# Altium footprint library supercap.PCBLIB: 487 footprints (part 14 of 31)
Each footprint in its own frame and in the unit in brackets; x right, y up, seen from the top. Pads: shape width x height; smd on the part's side, far side on the other; paste and mask are expansions set on the pad; w line width, h text height; cw(c..) or ccw(c..) is an arc to the next point about the centre after c.
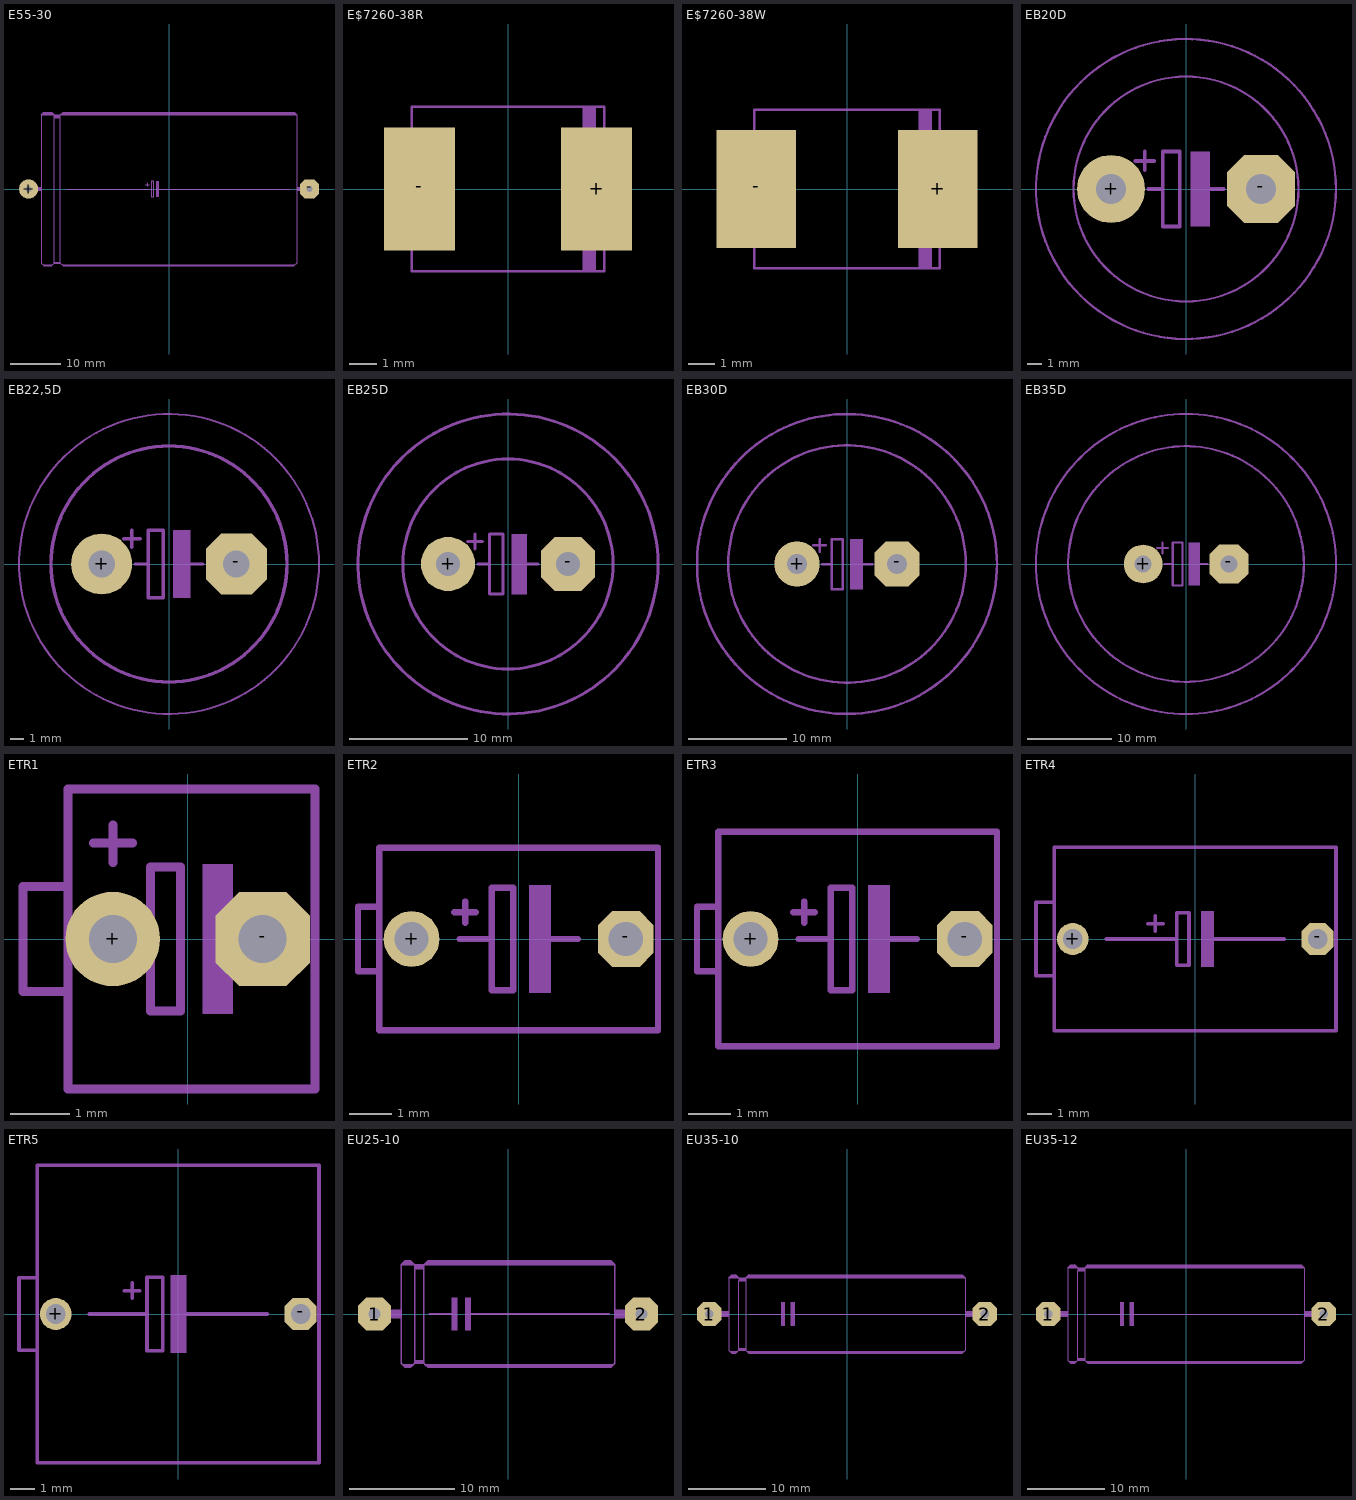
[diagram p13: the footprints below, top view; thin cyan lines are the x and y axes]

## E55-30 [mil]
pads (2):
  round 150 hole 47: +(-1100,0)
  oct 150x150 / inner round 138.58 / far side oct 150x150 hole 47: -(1100,0)
tDocu:
  lines w30: -1100,0 -1025,0 ; 1025,0 1100,0
tPlace:
  region: -100,-60 -100,60 -80,60 -80,-60
  region: 1000,-15 1000,15 1020,15 1020,-15
  region: -1020,-15 -1020,15 -1000,15 -1000,-15
  lines w6: -920,-598 -980,-598 -980,-600 ; -800,0 -140,0 ; -185,35 -155,35 ; -170,20 -170,50 ; -85,0 950,0 ; 980,-598 -830,-598 -830,-600 ; -1000,580 -980,600 -920,600 -900,580 ; -1000,580 -1000,-580 -985,-595 ; -1000,580 -900,580 ; -985,-595 -915,-595 ; -985,-595 -980,-600 ; -980,-600 -920,-600 -915,-595 ; -915,-595 -900,-580 ; -900,-580 -850,-580 ; -900,-580 -900,-578 ; -900,-578 -850,-578 ; -900,-578 -900,-575 ; -900,-575 -850,-575 ; -900,-575 -900,560 ; -900,560 -900,580 ; -900,560 -850,560 ; -900,580 -850,580 ; -850,-580 -850,-578 ; -850,-580 -835,-595 ; -850,-578 -850,-575 ; -850,-575 -850,560 ; -850,560 -850,580 ; -850,580 -830,600 980,600 1000,580 ; -850,580 1000,580 ; -835,-595 -830,-600 ; -835,-595 985,-595 ; -830,-600 980,-600 985,-595 ; -140,0 -140,60 -120,60 -120,-60 -140,-60 -140,0 ; 985,-595 1000,-580 1000,580
  lines w12: -990,585 -910,585 ; -980,595 -920,595 ; -895,565 -855,565 ; -895,575 -855,575 ; -840,585 990,585 ; -830,595 980,595

## E$7260-38R [mil]
pads (2):
  rect 100.39x173.23 smd: +(125,0) -(-125,0)
tDocu:
  region: -143.7,-80.71 -143.7,80.71 -137.8,80.71 -137.8,-80.71
  region: 137.8,-80.71 137.8,80.71 143.7,80.71 143.7,-80.71
  region: 105.32,-117.13 105.32,117.13 124.02,117.13 124.02,-117.13
  lines w4: -135.83,-116.14 135.83,-116.14 135.83,116.14 -135.83,116.14 -135.83,-116.14

## E$7260-38W [mil]
pads (2):
  rect 116.14x173.23 smd: +(132.87,0) -(-132.87,0)
tDocu:
  region: -143.7,-80.71 -143.7,80.71 -137.8,80.71 -137.8,-80.71
  region: 137.8,-80.71 137.8,80.71 143.7,80.71 143.7,-80.71
  region: 105.32,-117.13 105.32,117.13 124.02,117.13 124.02,-117.13
  lines w4: -135.83,-116.14 135.83,-116.14 135.83,116.14 -135.83,116.14 -135.83,-116.14

## EB20D [mil]
pads (2):
  round 181 hole 79: +(-200,0)
  oct 181x181 / inner round 167.22 / far side oct 181x181 hole 79: -(200,0)
tPlace:
  circle w6: c0,0 r400
  circle w6: c0,0 r300
  region: 13,-100 13,100 63,100 63,-100
  lines w10: -135,75 -85,75 ; -110,50 -110,100 ; -100,0 -62,0 ; 25,0 100,0 ; -62,0 -62,100 -17,100 -17,-100 -62,-100 -62,0

## EB22,5D [mil]
pads (2):
  round 181 hole 79: +(-200,0)
  oct 181x181 / inner round 167.22 / far side oct 181x181 hole 79: -(200,0)
tPlace:
  circle w10: c0,0 r350
  circle w6: c0,0 r445
  region: 13,-100 13,100 63,100 63,-100
  lines w10: -135,75 -85,75 ; -110,50 -110,100 ; -100,0 -62,0 ; 25,0 100,0 ; -62,0 -62,100 -17,100 -17,-100 -62,-100 -62,0

## EB25D [mil]
pads (2):
  round 181 hole 79: +(-200,0)
  oct 181x181 / inner round 167.22 / far side oct 181x181 hole 79: -(200,0)
tPlace:
  circle w10: c0,0 r500
  circle w10: c0,0 r350
  region: 13,-100 13,100 63,100 63,-100
  lines w10: -135,75 -85,75 ; -110,50 -110,100 ; -100,0 -62,0 ; 25,0 100,0 ; -62,0 -62,100 -17,100 -17,-100 -62,-100 -62,0

## EB30D [mil]
pads (2):
  round 181 hole 79: +(-200,0)
  oct 181x181 / inner round 167.22 / far side oct 181x181 hole 79: -(200,0)
tPlace:
  circle w10: c0,0 r600
  circle w10: c0,0 r475
  region: 13,-100 13,100 63,100 63,-100
  lines w10: -135,75 -85,75 ; -110,50 -110,100 ; -100,0 -62,0 ; 25,0 100,0 ; -62,0 -62,100 -17,100 -17,-100 -62,-100 -62,0

## EB35D [mil]
pads (2):
  round 181 hole 79: +(-200,0)
  oct 181x181 / inner round 167.22 / far side oct 181x181 hole 79: -(200,0)
tPlace:
  circle w10: c0,0 r700
  circle w10: c0,0 r550
  region: 13,-100 13,100 63,100 63,-100
  lines w10: -135,75 -85,75 ; -110,50 -110,100 ; -100,0 -62,0 ; 55,0 100,0 ; -62,0 -62,100 -17,100 -17,-100 -62,-100 -62,0

## ETR1 [mil]
pads (2):
  round 63 hole 32: +(-50,0)
  oct 63x63 / inner round 58.2 / far side oct 63x63 hole 32: -(50,0)
tDocu:
  region: 10,-50 10,50 30,50 30,-50
  lines w6: -80,-35 -80,35 ; -65,0 -25,0 ; 25,0 65,0 ; 85,-25 85,25 ; -25,0 -25,-48 -5,-48 -5,48 -25,48 -25,0
tPlace:
  lines w6: -63,64 -37,64 ; -50,51 -50,76 ; 85,-25 85,-100 -80,-100 -80,-35 -110,-35 -110,35 -80,35 -80,100 85,100 85,25

## ETR2 [mil]
pads (2):
  round 52 hole 32: +(-100,0)
  oct 52x52 / inner round 48.04 / far side oct 52x52 hole 32: -(100,0)
tDocu:
  lines w6: -130,-30 -130,30 ; 130,-30 130,30
tPlace:
  region: 10,-50 10,50 30,50 30,-50
  lines w6: -60,25 -40,25 ; -55,0 -25,0 ; -50,15 -50,35 ; 25,0 55,0 ; 130,-30 130,-85 -130,-85 -130,-30 -150,-30 -150,30 -130,30 -130,85 130,85 130,30 ; -25,0 -25,-48 -5,-48 -5,48 -25,48 -25,0

## ETR3 [mil]
pads (2):
  round 52 hole 32: +(-100,0)
  oct 52x52 / inner round 48.04 / far side oct 52x52 hole 32: -(100,0)
tDocu:
  lines w6: -130,-30 -130,30 ; 130,-30 130,30
tPlace:
  region: 10,-50 10,50 30,50 30,-50
  lines w6: -60,25 -40,25 ; -55,0 -25,0 ; -50,15 -50,35 ; 25,0 55,0 ; 130,-30 130,-100 -130,-100 -130,-30 -150,-30 -150,30 -130,30 -130,100 130,100 130,30 ; -25,0 -25,-48 -5,-48 -5,48 -25,48 -25,0

## ETR4 [mil]
pads (2):
  round 52 hole 32: +(-200,0)
  oct 52x52 / inner round 48.04 / far side oct 52x52 hole 32: -(200,0)
tDocu:
  lines w6: -230,-60 -230,60 ; 230,-30 230,30
tPlace:
  region: 10,-45 10,45 30,45 30,-45
  lines w6: -145,0 -30,0 ; -77,25 -52,25 ; -65,13 -65,38 ; 20,0 145,0 ; 230,-30 230,-150 -230,-150 -230,-60 -260,-60 -260,60 -230,60 -230,150 230,150 230,30 ; -30,0 -30,43 -10,43 -10,-43 -30,-43 -30,0

## ETR5 [mil]
pads (2):
  round 52 hole 32: +(-200,0)
  oct 52x52 / inner round 48.04 / far side oct 52x52 hole 32: -(200,0)
tDocu:
  lines w6: -230,-59 -230,59 ; 230,-35 230,35
tPlace:
  region: -12,-63 -12,63 13,63 13,-63
  lines w6: -145,0 -51,0 ; -88,38 -63,38 ; -75,26 -75,51 ; 0,0 145,0 ; 230,-35 230,-243 -230,-243 -230,-59 -260,-59 -260,59 -230,59 -230,243 230,243 230,35 ; -51,0 -51,60 -25,60 -25,-60 -51,-60 -51,0

## EU25-10 [mil]
pads (2):
  oct 124x124 / inner round 114.56 / far side oct 124x124 hole 44: 1(-500,0) 2(500,0)
tDocu:
  lines w30: -500,0 -435,0 ; 435,0 500,0
tPlace:
  region: -160,-60 -160,60 -140,60 -140,-60
  region: -435,-15 -435,15 -400,15 -400,-15
  region: 400,-15 400,15 435,15 435,-15
  region: -210,-60 -210,60 -190,60 -190,-60
  lines w6: -295,0 -200,0 ; -145,0 380,0 ; -400,185 -400,-185 -395,-190 ; -400,185 -385,200 -365,200 -350,185 ; -400,185 -350,185 ; -395,-190 -355,-190 ; -395,-190 -385,-200 -365,-200 -355,-190 ; -355,-190 -350,-185 ; -350,-185 -350,-175 ; -350,-185 -315,-185 ; -350,-175 -315,-175 ; -350,-175 -350,170 ; -350,170 -350,185 ; -350,170 -315,170 ; -350,185 -315,185 ; -315,-185 -310,-190 ; -315,-185 -315,-175 ; -315,-175 -315,170 ; -315,170 -315,185 ; -315,185 -300,200 385,200 400,185 ; -315,185 400,185 ; -310,-190 -300,-200 385,-200 395,-190 ; -310,-190 395,-190 ; 395,-190 400,-185 400,185
  lines w10: -385,-195 -365,-195 ; -345,-180 -320,-180 ; -300,-195 385,-195
  lines w12: -390,190 -360,190 ; -385,195 -365,195 ; -345,175 -320,175 ; -345,180 -320,180 ; -305,190 390,190 ; -300,195 385,195
  text "10x20" at -300,-175 h60.45

## EU35-10 [mil]
pads (2):
  oct 124x124 / inner round 114.56 / far side oct 124x124 hole 44: 1(-700,0) 2(700,0)
tDocu:
  lines w30: -700,0 -635,0 ; 635,0 700,0
tPlace:
  region: -285,-60 -285,60 -265,60 -265,-60
  region: -635,-15 -635,15 -600,15 -600,-15
  region: 600,-15 600,15 635,15 635,-15
  region: -335,-60 -335,60 -315,60 -315,-60
  lines w6: -495,0 -325,0 ; -270,0 580,0 ; -600,185 -600,-185 -595,-190 ; -600,185 -585,200 -565,200 -550,185 ; -600,185 -550,185 ; -595,-190 -555,-190 ; -595,-190 -585,-200 -565,-200 -555,-190 ; -555,-190 -550,-185 ; -550,-185 -550,-175 ; -550,-185 -515,-185 ; -550,-175 -515,-175 ; -550,-175 -550,170 ; -550,170 -550,185 ; -550,170 -515,170 ; -550,185 -515,185 ; -515,-185 -510,-190 ; -515,-185 -515,-175 ; -515,-175 -515,170 ; -515,170 -515,185 ; -515,185 -500,200 585,200 600,185 ; -515,185 600,185 ; -510,-190 -500,-200 585,-200 595,-190 ; -510,-190 595,-190 ; 595,-190 600,-185 600,185
  lines w10: -585,-195 -565,-195 ; -545,-180 -520,-180 ; -500,-195 585,-195
  lines w12: -590,190 -560,190 ; -585,195 -565,195 ; -545,175 -520,175 ; -545,180 -520,180 ; -505,190 590,190 ; -500,195 585,195
  text "10x30" at -500,-175 h60.45

## EU35-12 [mil]
pads (2):
  oct 124x124 / inner round 114.56 / far side oct 124x124 hole 44: 1(-700,0) 2(700,0)
tDocu:
  lines w30: -700,0 -635,0 ; 635,0 700,0
tPlace:
  region: -285,-60 -285,60 -265,60 -265,-60
  region: -635,-15 -635,15 -600,15 -600,-15
  region: 600,-15 600,15 635,15 635,-15
  region: -335,-60 -335,60 -315,60 -315,-60
  lines w6: -495,0 -325,0 ; -270,0 580,0 ; -600,235 -600,-235 -595,-240 ; -600,235 -585,250 -565,250 -550,235 ; -600,235 -550,235 ; -595,-240 -555,-240 ; -595,-240 -585,-250 -565,-250 -555,-240 ; -555,-240 -550,-235 ; -550,-235 -550,-225 ; -550,-235 -515,-235 ; -550,-225 -515,-225 ; -550,-225 -550,220 ; -550,220 -550,235 ; -550,220 -515,220 ; -550,235 -515,235 ; -515,-235 -510,-240 ; -515,-235 -515,-225 ; -515,-225 -515,220 ; -515,220 -515,235 ; -515,235 -500,250 585,250 600,235 ; -515,235 600,235 ; -510,-240 -500,-250 585,-250 595,-240 ; -510,-240 595,-240 ; 595,-240 600,-235 600,235
  lines w10: -585,-245 -565,-245 ; -545,-230 -520,-230 ; -500,-245 585,-245
  lines w12: -590,240 -560,240 ; -585,245 -565,245 ; -545,225 -520,225 ; -545,230 -520,230 ; -505,240 590,240 ; -500,245 585,245
  text "12x30" at -500,-225 h60.45